# Altium footprint library Diode_SMD.PcbLib: 90 footprints (part 5 of 6)
Each footprint in its own frame and in the unit in brackets; x right, y up, seen from the top. Pads: shape width x height; smd on the part's side, far side on the other; paste and mask are expansions set on the pad; w line width, h text height; cw(c..) or ccw(c..) is an arc to the next point about the centre after c.
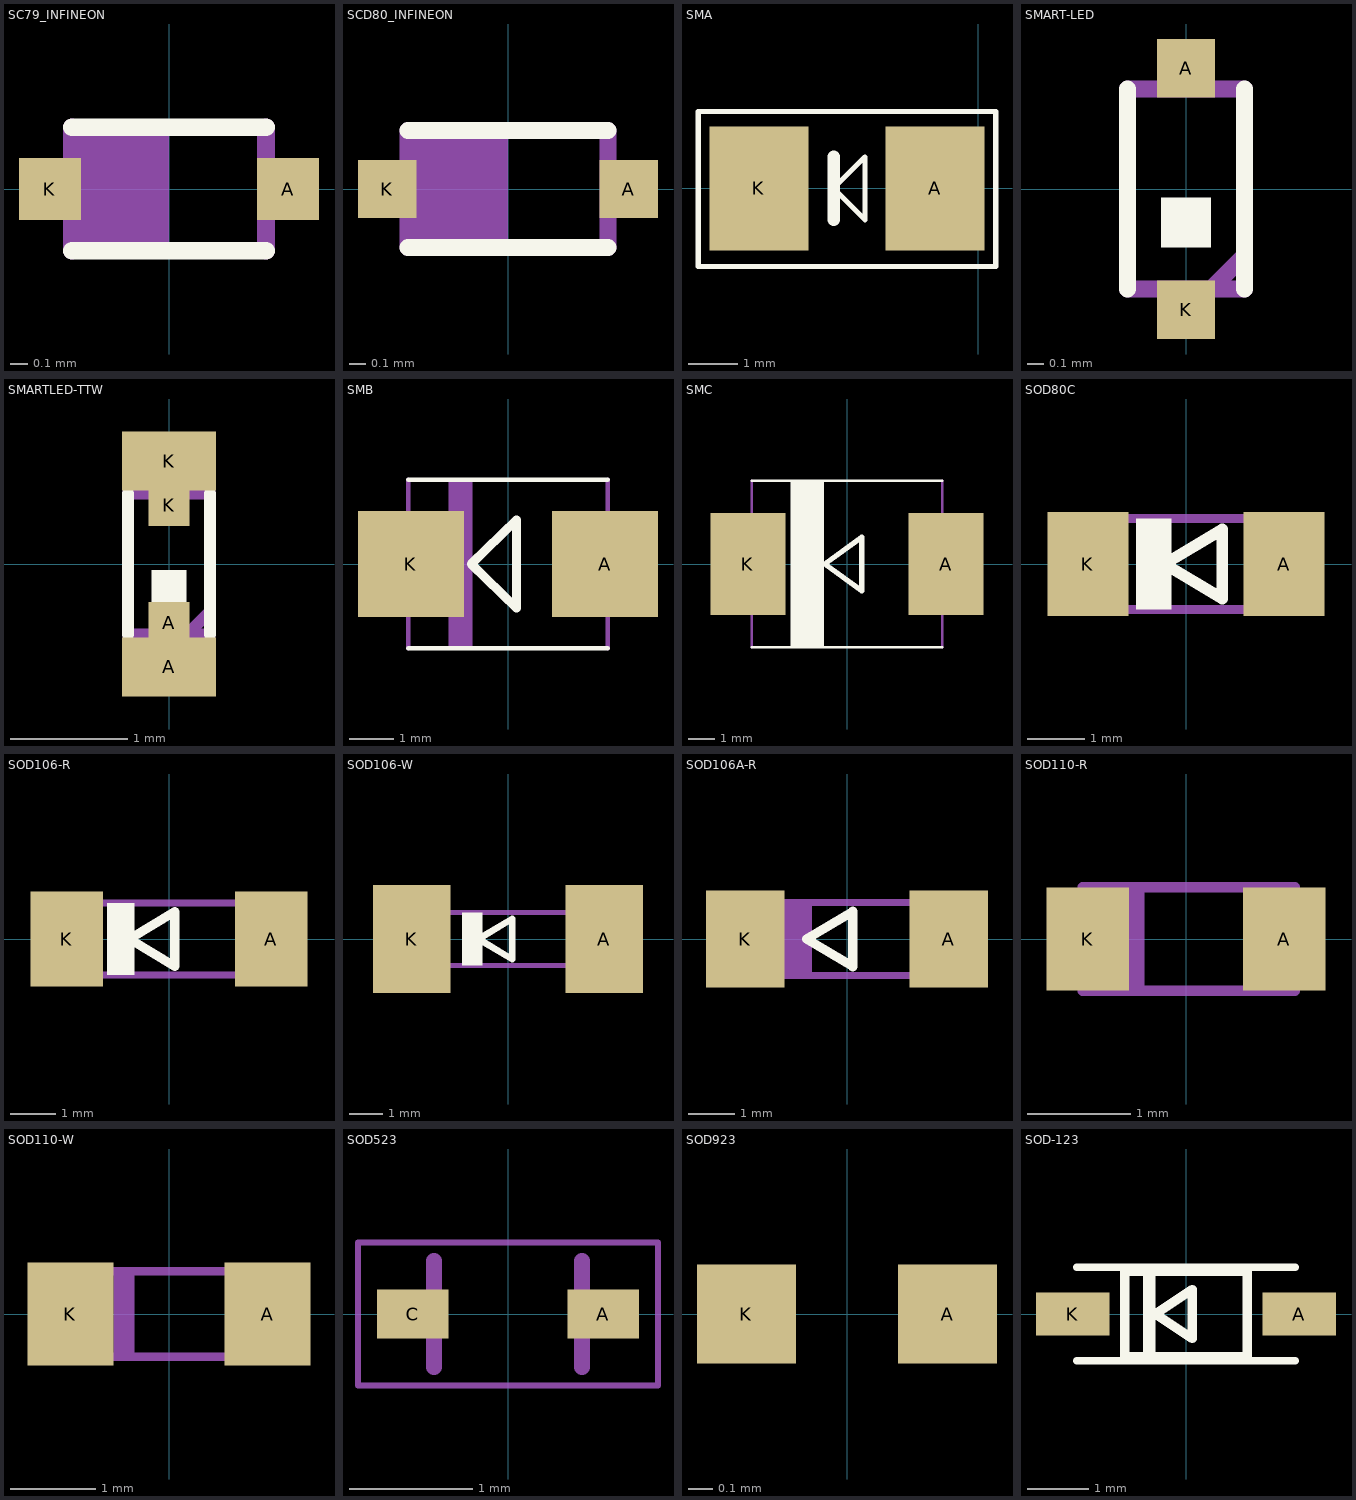
[diagram p4: the footprints below, top view; thin cyan lines are the x and y axes]

## SC79_INFINEON [mm]
pads (2):
  rect 0.35x0.35 smd: A(0.675,0) K(-0.675,0)
Top Overlay:
  lines w0.102: -0.55,-0.35 0.55,-0.35 ; -0.55,0.35 0.55,0.35
Mechanical 16:
  rectangle: -0.8,-0.15 -0.55,0.15
  rectangle: 0.55,-0.15 0.8,0.15
  rectangle: -0.55,-0.35 0,0.35
  lines w0.102: -0.55,-0.35 -0.55,0.35 ; 0.55,-0.35 0.55,0.35
3D body "User Library-SOD-523F - sc-79.step": height 0.69, standoff -0.01, extent -0.8,-0.399 0.8,0.399

## SCD80_INFINEON [mm]
pads (2):
  rect 0.35x0.35 smd: A(0.725,0) K(-0.725,0)
Top Overlay:
  lines w0.102: -0.6,-0.35 0.6,-0.35 ; -0.6,0.35 0.6,0.35
Mechanical 16:
  rectangle: -0.6,-0.35 0,0.35
  rectangle: -0.85,-0.15 -0.6,0.15
  rectangle: 0.6,-0.15 0.85,0.15
  lines w0.102: -0.6,-0.35 -0.6,0.35 ; 0.6,-0.35 0.6,0.35
3D body "User Library-SOD-523F - sc-79.step": height 0.7, standoff 0, extent -0.8,-0.399 0.8,0.399

## SMA [mm]
pads (2):
  rect 2x2.5 smd: A(-0.875,0) K(-4.425,0)
Top Overlay:
  lines w0.102: -5.65,-1.575 -5.65,1.55 0.35,1.55 0.35,-1.575 -5.65,-1.575 ; -2.921,0 -2.286,0.635 -2.286,0 -2.286,-0.635 -2.921,0
  lines w0.25: -2.921,-0.635 -2.921,0 -2.921,0.635
3D body "User Library-DO-214Aa SMA.step": height 2.4, standoff 0, extent -5.2,-1.3 0,1.3

## SMART-LED [mm]
pads (2):
  rect 0.35x0.35 smd: A(0,0.725) K(0,-0.725)
Top Overlay:
  rectangle: -0.15,-0.35 0.15,-0.05
  lines w0.102: -0.35,-0.6 -0.35,0.6 ; 0.35,-0.6 0.35,0.6
Mechanical 16:
  rectangle: -0.15,-0.85 0.15,-0.6
  rectangle: -0.15,0.6 0.15,0.85
  lines w0.102: -0.35,-0.6 0.35,-0.6 ; -0.35,0.6 0.35,0.6 ; 0.15,-0.6 0.35,-0.4

## SMARTLED-TTW [mm]
pads (4):
  rect 0.8x0.5 smd: A(0,-0.875) K(0,0.875)
  rect 0.35x0.35 smd: A(0,-0.5) K(0,0.5)
Top Overlay:
  rectangle: -0.15,-0.35 0.15,-0.05
  lines w0.102: -0.35,-0.6 -0.35,0.6 ; 0.35,-0.6 0.35,0.6
Top Paste:
  region: 0.225,-0.3 -0.225,-0.3 -0.225,-0.975 0.225,-0.975
  rectangle: -0.225,0.3 0.225,0.975
Top Solder:
  region: 0.175,-0.325 -0.175,-0.325 -0.175,-0.7 0.175,-0.7
  rectangle: -0.175,0.325 0.175,0.7
Mechanical 16:
  rectangle: -0.15,-0.85 0.15,-0.6
  rectangle: -0.15,0.6 0.15,0.85
  lines w0.102: -0.35,-0.6 0.35,-0.6 ; -0.35,0.6 0.35,0.6 ; 0.15,-0.6 0.35,-0.4

## SMB [mm]
pads (2):
  rect 2.4x2.4 smd: A(2.2,0) K(-2.2,0)
Top Overlay:
  lines w0.102: -2.261,-1.905 2.261,-1.905 ; -2.261,1.905 2.261,1.905
  lines w0.203: -0.83,0 0.193,1 0.193,-1 -0.83,0
Mechanical 16:
  rectangle: -2.794,-1.092 -2.261,1.092
  rectangle: 2.261,-1.092 2.794,1.092
  rectangle: -1.35,-1.9 -0.8,1.9
  lines w0.102: -2.261,-1.905 -2.261,1.905 ; 2.261,-1.905 2.261,1.905
3D body "User Library-DO-214AA_SMB.step": height 2.23, standoff -0.02, extent -2.65,-1.846 2.65,1.854

## SMC [mm]
pads (2):
  rect 2.8x3.8 smd: A(3.7,0) K(-3.7,0)
Top Overlay:
  rectangle: -2.1,-3.1 -0.85,3.1
  lines w0.102: -3.561,-3.105 3.561,-3.105 ; -3.561,3.105 3.561,3.105
  lines w0.203: -0.83,0 0.543,-1 0.543,1 -0.83,0
Mechanical 16:
  rectangle: 3.561,-1.092 4.094,1.092
  rectangle: -4.094,-1.092 -3.561,1.092
  lines w0.102: -3.561,-3.105 -3.561,3.105 ; 3.561,-3.105 3.561,3.105
3D body "User Library-DO-214AB SMC.step": height 2.27, standoff -0.03, extent -4,-2.95 3.95,2.95

## SOD80C [mm]
pads (2):
  rect 1.4x1.8 smd: A(1.7,0) K(-1.7,0)
Top Overlay:
  rectangle: -0.864,-0.787 -0.254,0.787
  lines w0.203: -0.373,0 0.627,0.6 0.627,-0.6 -0.373,0
Mechanical 16:
  rectangle: -1.854,-0.864 -1.295,0.864
  rectangle: 1.295,-0.864 1.854,0.864
  lines w0.152: -1.321,-0.787 1.321,-0.787 ; -1.321,0.787 1.321,0.787
3D body "minimelf.step": height 1.45, standoff 0, extent -1.775,-0.75 1.725,0.699

## SOD106-R [mm]
pads (2):
  rect 1.6x2.1 smd: A(2.25,0) K(-2.25,0)
Top Overlay:
  rectangle: -1.364,-0.787 -0.754,0.787
  lines w0.203: -0.873,0 0.127,-0.6 0.127,0.6 -0.873,0
Mechanical 16:
  rectangle: 1.796,-0.864 2.354,0.864
  rectangle: -2.354,-0.864 -1.796,0.864
  lines w0.152: -1.821,-0.787 1.821,-0.787 ; -1.821,0.787 1.821,0.787
3D body "User Library-DO-214AC SMA.step": height 2.4, standoff 0, extent -2.549,-1.305 2.651,1.295

## SOD106-W [mm]
pads (2):
  rect 2.3x3.2 smd: A(2.85,0) K(-2.85,0)
Top Overlay:
  rectangle: -1.364,-0.787 -0.754,0.787
  lines w0.203: -0.873,0 0.127,-0.6 0.127,0.6 -0.873,0
Mechanical 16:
  rectangle: 1.796,-0.864 2.354,0.864
  rectangle: -2.354,-0.864 -1.796,0.864
  lines w0.152: -1.821,-0.787 1.821,-0.787 ; -1.821,0.787 1.821,0.787

## SOD106A-R [mm]
pads (2):
  rect 1.7x2.1 smd: A(2.2,0) K(-2.2,0)
Top Overlay:
  lines w0.203: -0.873,0 0.127,-0.6 0.127,0.6 -0.873,0
Mechanical 16:
  rectangle: -1.364,-0.787 -0.754,0.787
  rectangle: 1.796,-0.864 2.354,0.864
  rectangle: -2.354,-0.864 -1.796,0.864
  lines w0.152: -1.821,-0.787 1.821,-0.787 ; -1.821,0.787 1.821,0.787
3D body "User Library-DO-214AC SMA.step": height 2.4, standoff 0, extent -2.625,-1.305 2.575,1.295

## SOD110-R [mm]
pads (2):
  rect 0.8x1 smd: A(0.95,0) K(-0.95,0)
Mechanical 16:
  rectangle: -0.65,-0.45 -0.4,0.45
  lines w0.102: -1,-0.5 -1,0.5 1.05,0.5 1.05,-0.5 -1,-0.5
3D body "User Library-SOD110.step": height 1.7, standoff 0, extent -1.05,-0.65 1.05,0.65

## SOD110-W [mm]
pads (2):
  rect 1x1.2 smd: A(1.15,0) K(-1.15,0)
Mechanical 16:
  rectangle: -0.65,-0.45 -0.4,0.45
  lines w0.102: -1,-0.5 1.05,-0.5 1.05,0.5 -1,0.5 -1,-0.5

## SOD523 [mm]
pads (2):
  rect 0.58x0.4 smd: A(0.77,0) C(-0.77,0)
Mechanical 4:
  lines w0.127: -0.6,-0.43 -0.6,0.43 -0.6,-0.43 ; 0.6,-0.43 0.6,0.43 0.6,-0.43
Mechanical 15:
  lines w0.05: -1.215,-0.58 -1.215,0.58 1.215,0.58 1.215,-0.58 -1.215,-0.58
3D body "User Library-SOD-523F.STEP": height 0.69, standoff -0.01, extent -0.75,-0.399 0.85,0.399

## SOD923 [mm]
pads (2):
  rect 0.4x0.4 smd: A(0.406,0) K(-0.406,0)
3D body "SOD-923.step": height 0.4, standoff 0, extent -0.5,-0.3 0.5,0.3

## SOD-123 [mm]
pads (2):
  rect 1.2x0.7 smd: A(1.85,0) K(-1.85,0)
Top Overlay:
  rectangle: -0.7,-0.7 -0.5,0.7
  lines w0.127: -1.778,-0.762 1.778,-0.762 ; -1.778,0.762 1.778,0.762
  lines w0.152: -1,-0.7 -1,0.7 1,0.7 1,-0.7 -1,-0.7 ; -0.5,0 0.1,-0.4 0.1,0.4 -0.5,0
3D body "CircuitWorks-SOD123.step": height 1.27, standoff 0, extent -1.85,-0.8 1.85,0.8